# Altium footprint library IHLP4040DZ.PcbLib: 1 footprints
Each footprint in its own frame and in the unit in brackets; x right, y up, seen from the top. Pads: shape width x height; smd on the part's side, far side on the other; paste and mask are expansions set on the pad; w line width, h text height; cw(c..) or ccw(c..) is an arc to the next point about the centre after c.
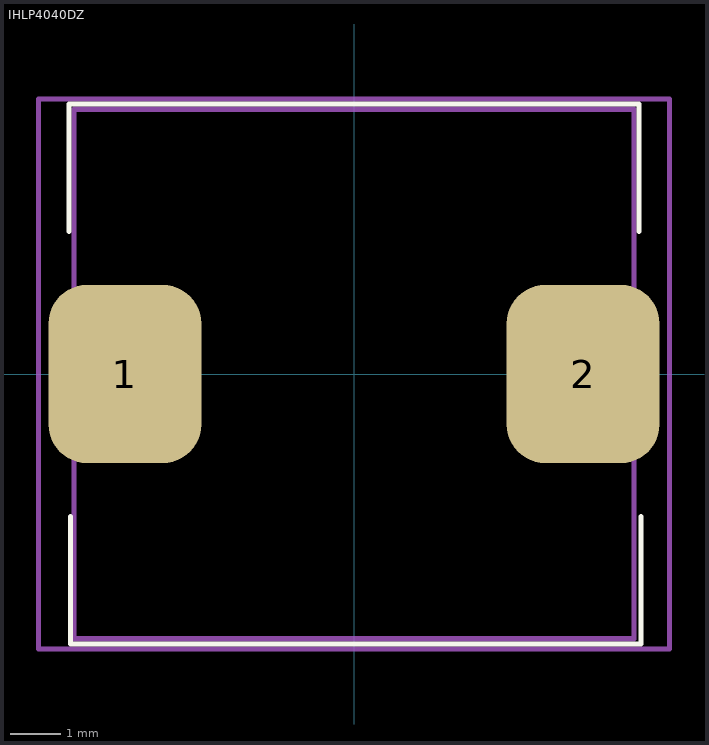
[diagram p0: the footprint, top view; thin cyan lines are the x and y axes]

## IHLP4040DZ [mm]
pads (2):
  rrect50% 3x3.5 smd mask+0.05: 1(-4.5,0) 2(4.5,0)
Top Overlay:
  lines w0.1: -5.6,2.8 -5.6,5.3 5.6,5.3 5.6,2.8 ; -5.567,-2.802 -5.567,-5.302 5.633,-5.302 5.633,-2.802
Top Assembly:
  lines w0.1: -5.5,-5.2 5.5,-5.2 5.5,5.2 -5.5,5.2 -5.5,-5.2
Top Courtyard:
  lines w0.1: -6.2,-5.4 6.2,-5.4 6.2,5.4 -6.2,5.4 -6.2,-5.4
3D body "User Library-IHLP-4040DZ-01.step": height 4, standoff 0, extent -5.46,-5.15 5.46,5.15